# Altium schematic symbol library LM22671.Schlib: 1 symbol
Pins are listed as number, name and electrical type; pins without a type are passive.

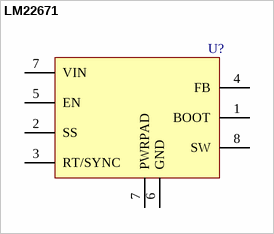
[diagram p0: symbol LM22671]

## LM22671
designator U?
pins: 1 BOOT, 2 SS, 3 RT/SYNC, 4 FB, 5 EN, 6 GND, 7 VIN, 7 PWRPAD, 8 SW